# Altium integrated library Analog Devices Data Converters Analog-to-Digital Converters.IntLib: 2404 symbols (part 345 of 346)
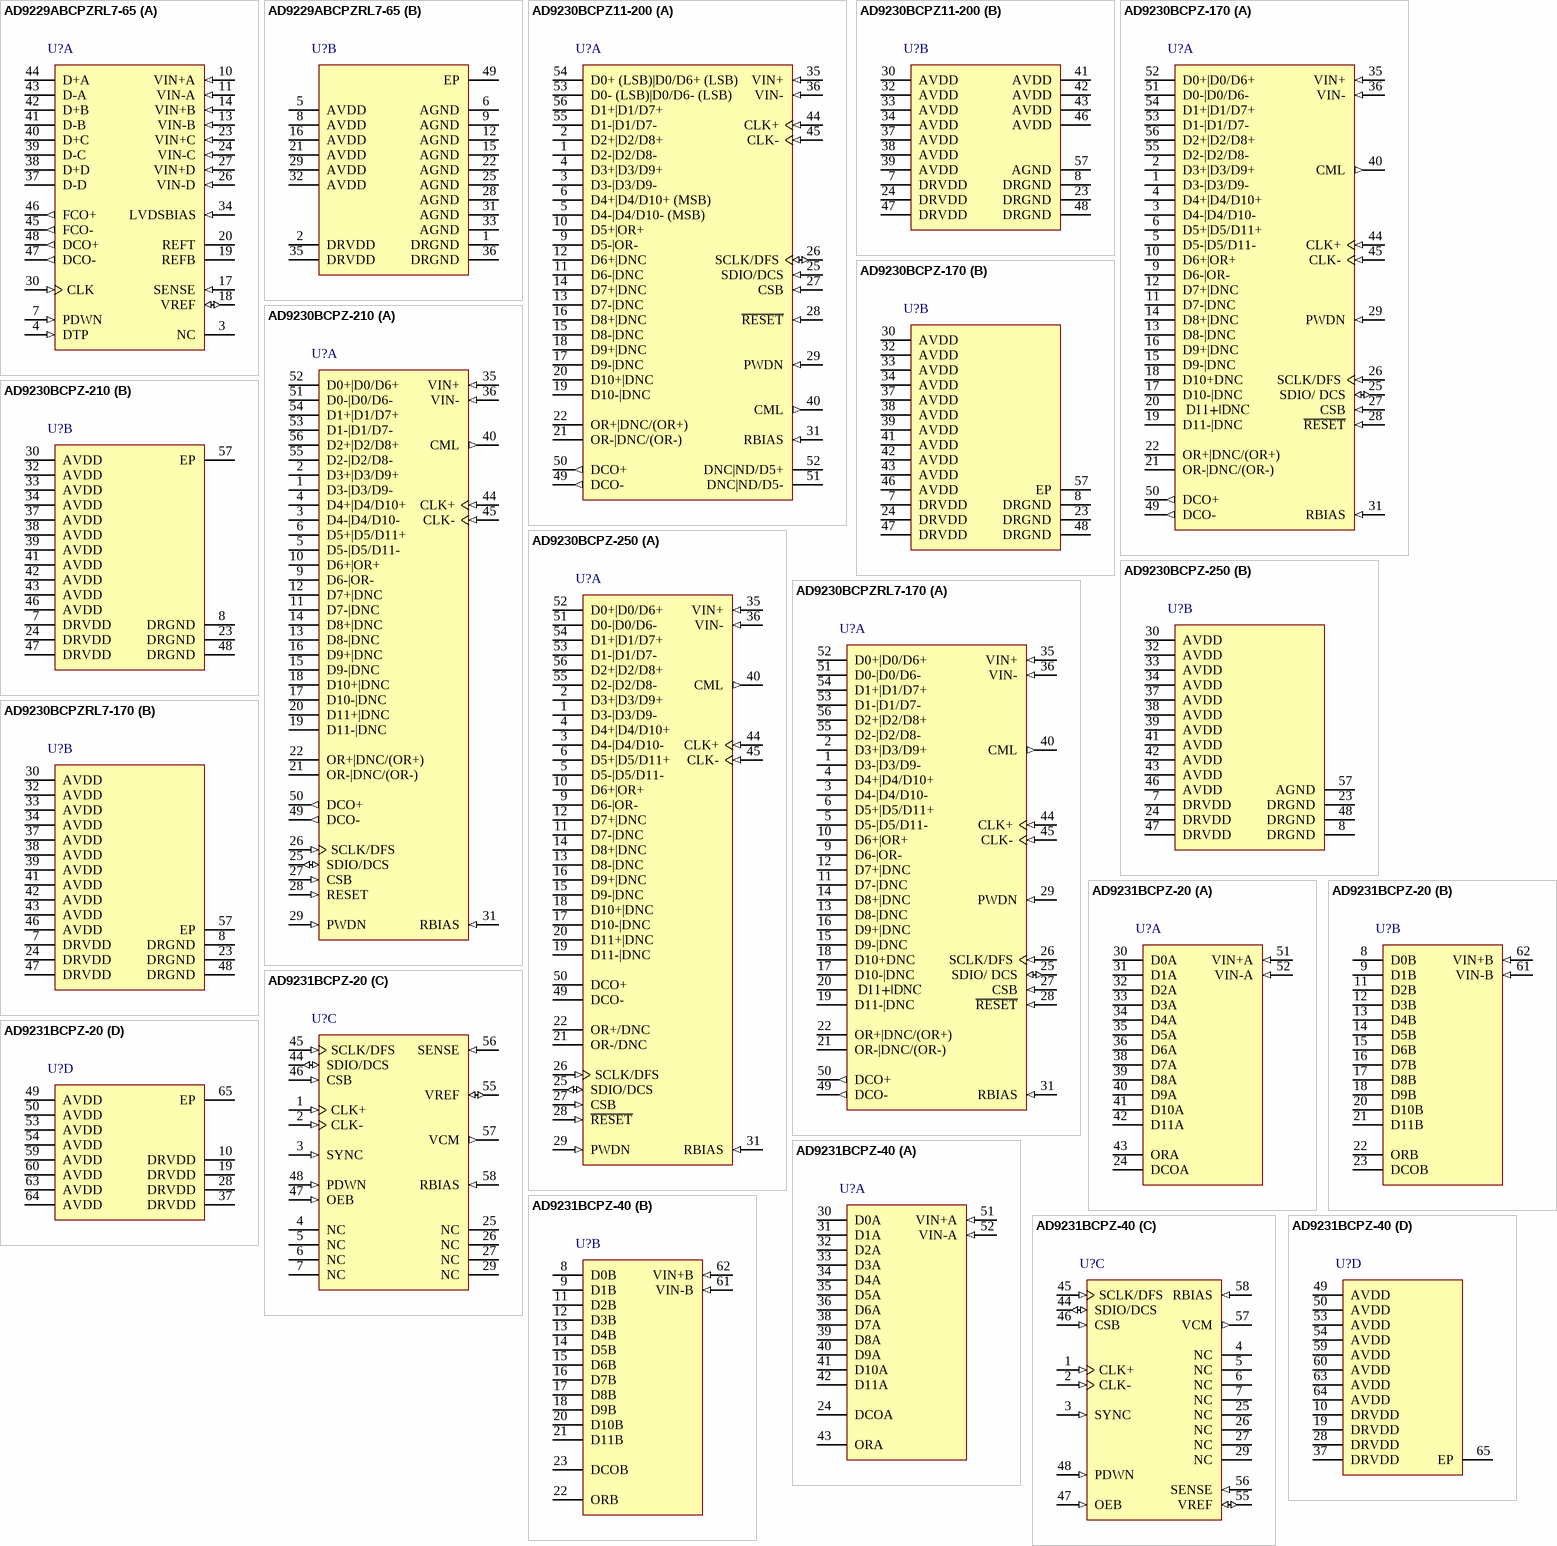
[diagram p339: symbols AD9229ABCPZRL7-65 to AD9231BCPZ-40]

## AD9230BCPZ-210
designator U?
Single 12-Bit Analog-to-Digital Converter with LVDS, Parallel Interface, 1.8 V 210MSPS, -40 to +85 degC, CP-56-2, Pb-Free, Tray; Generic Part Number: AD9230-210; Manufacturer: Analog Devices; PartNumber: AD9230BCPZ-210; Resolution (Bits): 12; Channels: 1; Throughput Rate (SPS): 210M; DatasheetVersion: Rev.0; PackageVersion: 112805-0; PackageReference: CP-56-2; PackageDescription: 56-Lead Lead Frame Chip Scale Package [LFCSP_VQ] 8 x 8 mm Body, Very Thin Quad; Supplier 1: Digi-Key; Supplier Part Number 1: AD9230BCPZ-210-ND; Supplier 2: Farnell; Supplier Part Number 2: 2312752; Supplier 3: Newark; Supplier Part Number 3: 34M5087; Supplier 4: Mouser; Supplier Part Number 4: 584-AD9230BCPZ-210; Interface: LVDS, Par; RoHS: Y; Packing: Tray; Mounting Technology: Surface Mount; Code_JEDEC: MO-220-VLLD-2; ComponentLink1Description: Manufacturer URL; ComponentLink1URL: http://www.analog.com/en/index.html; ComponentLink2Description: Datasheet; ComponentLink2URL: http://www.analog.com/static/imported-files/data_sheets/AD9230.pdf; ComponentLink3Description: Package Specification; ComponentLink3URL: http://www.analog.com/static/imported-files/packages/PKG_PDF/LFCSP(CP)/CP-56/CP_56_2.pdf; ComponentLink4Description: Product URL; ComponentLink4URL: http://www.analog.com/en/analog-to-digital-converters/ad-converters/ad9230/products/product.html
footprint CP-56-2_N (QFN, 56-Leads, Body 8x8mm, Pitch 0.5mm, Thermal Pad 4.3x4.3mm, IPC Medium Density)
footprint CP-56-2_L (QFN, 56-Leads, Body 8x8mm, Pitch 0.5mm, Thermal Pad 4.3x4.3mm, IPC High Density)
footprint CP-56-2_M (QFN, 56-Leads, Body 8x8mm, Pitch 0.5mm, Thermal Pad 4.3x4.3mm, IPC Low Density)
part A pins: 1 D3-|D3/D9- (hiz), 2 D3+|D3/D9+ (hiz), 3 D4-|D4/D10- (hiz), 4 D4+|D4/D10+ (hiz), 5 D5-|D5/D11- (hiz), 6 D5+|D5/D11+ (hiz), 9 D6-|OR- (hiz), 10 D6+|OR+ (hiz), 11 D7-|DNC (hiz), 12 D7+|DNC (hiz), 13 D8-|DNC (hiz), 14 D8+|DNC (hiz), 15 D9-|DNC (hiz), 16 D9+|DNC (hiz), 17 D10-|DNC (hiz), 18 D10+|DNC (hiz), 19 D11-|DNC (hiz), 20 D11+|DNC (hiz), 21 OR-|DNC/(OR-) (hiz), 22 OR+|DNC/(OR+) (hiz), 25 SDIO/DCS (io) "Serial Port Interface (SPI®) Data Input/Output (Serial Port Mode); Duty Cycle Stabilizer Select (External Pin Mode).", 26 SCLK/DFS (in) "Serial Port Interface Clock (Serial Port Mode); Data Format Select Pin (External Pin Mode).", 27 CSB (in) "Serial Port Chip Select (Active Low).", 28 RESET (in) "CMOS-Compatible Chip Reset (Active Low).", 29 PWDN (in) "Chip Power-Down.", 31 RBIAS (in) "Set Pin for Chip Bias Current. (Place 1% 10 kO resistor terminated to ground.) Nominally 0.5 V.", 35 VIN+ (in) "Analog Input--True.", 36 VIN- (in) "Analog Input--Complement.", 40 CML (out) "Common-Mode Output Pin. Enabled through the SPI, this pin provides a reference for the optimized internal bias voltage for VIN+/VIN-.", 44 CLK+ (in) "Clock Input--True.", 45 CLK- (in) "Clock Input--Complement.", 49 DCO- (out) "Data Clock Output--Complement.", 50 DCO+ (out) "Data Clock Output--True.", 51 D0-|D0/D6- (hiz), 52 D0+|D0/D6+ (hiz), 53 D1-|D1/D7- (hiz), 54 D1+|D1/D7+ (hiz), 55 D2-|D2/D8- (hiz), 56 D2+|D2/D8+ (hiz)
part B pins: 7 DRVDD (power) "1.8 V Digital Output Supply.", 8 DRGND (power) "Digital Output Ground.", 23 DRGND (power) "Digital Output Ground.", 24 DRVDD (power) "1.8 V Digital Output Supply.", 30 AVDD (power) "1.8 V Analog Supply.", 32 AVDD (power) "1.8 V Analog Supply.", 33 AVDD (power) "1.8 V Analog Supply.", 34 AVDD (power) "1.8 V Analog Supply.", 37 AVDD (power) "1.8 V Analog Supply.", 38 AVDD (power) "1.8 V Analog Supply.", 39 AVDD (power) "1.8 V Analog Supply.", 41 AVDD (power) "1.8 V Analog Supply.", 42 AVDD (power) "1.8 V Analog Supply.", 43 AVDD (power) "1.8 V Analog Supply.", 46 AVDD (power) "1.8 V Analog Supply.", 47 DRVDD (power) "1.8 V Digital Output Supply.", 48 DRGND (power) "Digital Output Ground.", 57 EP (power) "Analog Ground."

## AD9230BCPZ-250
designator U?
Single 12-Bit Analog-to-Digital Converter with LVDS, Parallel Interface, 1.8 V 250MSPS, -40 to +85 degC, CP-56-2, Pb-Free, Tray; Generic Part Number: AD9230-250; Manufacturer: Analog Devices; PartNumber: AD9230BCPZ-250; Resolution (Bits): 12; Channels: 1; Throughput Rate (SPS): 250M; DatasheetVersion: Rev.0; PackageVersion: 112805-0; PackageReference: CP-56-2; PackageDescription: 56-Lead Lead Frame Chip Scale Package [LFCSP_VQ] 8 x 8 mm Body, Very Thin Quad; Supplier 1: Digi-Key; Supplier Part Number 1: AD9230BCPZ-250-ND; Supplier 2: Farnell; Supplier Part Number 2: 1699562; Supplier 3: Newark; Supplier Part Number 3: 34M5088; Supplier 4: Mouser; Supplier Part Number 4: 584-AD9230BCPZ-250; Interface: LVDS, Par; RoHS: Y; Packing: Tray; Mounting Technology: Surface Mount; Code_JEDEC: MO-220-VLLD-2; ComponentLink1Description: Manufacturer URL; ComponentLink1URL: http://www.analog.com/en/index.html; ComponentLink2Description: Datasheet; ComponentLink2URL: http://www.analog.com/static/imported-files/data_sheets/AD9230.pdf; ComponentLink3Description: Package Specification; ComponentLink3URL: http://www.analog.com/static/imported-files/packages/PKG_PDF/LFCSP(CP)/CP-56/CP_56_2.pdf; ComponentLink4Description: Product URL; ComponentLink4URL: http://www.analog.com/en/analog-to-digital-converters/ad-converters/ad9230/products/product.html
footprint CP-56-2_N (QFN, 56-Leads, Body 8x8mm, Pitch 0.5mm, Thermal Pad 4.3x4.3mm, IPC Medium Density)
footprint CP-56-2_L (QFN, 56-Leads, Body 8x8mm, Pitch 0.5mm, Thermal Pad 4.3x4.3mm, IPC High Density)
footprint CP-56-2_M (QFN, 56-Leads, Body 8x8mm, Pitch 0.5mm, Thermal Pad 4.3x4.3mm, IPC Low Density)
part A pins: 1 D3-|D3/D9- (hiz) "D3/D9 Complement Output Bit.", 2 D3+|D3/D9+ (hiz) "D3/D9 True Output Bit.", 3 D4-|D4/D10- (hiz) "D4/D10 Complement Output Bit.", 4 D4+|D4/D10+ (hiz) "D4/D10 True Output Bit.", 5 D5-|D5/D11- (hiz) "D5/D11 Complement Output Bit (MSB).", 6 D5+|D5/D11+ (hiz) "D5/D11 True Output Bit (MSB).", 9 D6-|OR- (hiz), 10 D6+|OR+ (hiz), 11 D7-|DNC (hiz), 12 D7+|DNC (hiz), 13 D8-|DNC (hiz), 14 D8+|DNC (hiz), 15 D9-|DNC (hiz), 16 D9+|DNC (hiz), 17 D10-|DNC (hiz), 18 D10+|DNC (hiz), 19 D11-|DNC (hiz), 20 D11+|DNC (hiz), 21 OR-/DNC (hiz), 22 OR+/DNC (hiz), 25 SDIO/DCS (io) "Serial Port Interface (SPI) Data Input/Output (Serial Port Mode); Duty Cycle Stabilizer Select (External Pin Mode).", 26 SCLK/DFS (in) "Serial Port Interface Clock (Serial Port Mode); Data Format Select Pin (External Pin Mode).", 27 CSB (in) "Serial Port Chip Select (Active Low).", 28 ~{RESET} (in) "CMOS-Compatible Chip Reset (Active Low).", 29 PWDN (in) "Chip Power-Down.", 31 RBIAS (in) "Set Pin for Chip Bias Current. (Place 1% 10 k ohm resistor terminated to ground.) Nominally 0.5 V.", 35 VIN+ (in) "Analog Input--True.", 36 VIN- (in) "Analog Input--Complement.", 40 CML (out) "Common-Mode Output Pin. Enabled through the SPI, this pin provides a reference for the optimized internal bias voltage for VIN+/VIN-.", 44 CLK+ (in) "Clock Input--True.", 45 CLK- (in) "Clock Input--Complement.", 49 DCO- (hiz) "Data Clock Output--Complement.", 50 DCO+ (hiz) "Data Clock Output--True.", 51 D0-|D0/D6- (hiz) "D0/D6 Complement Output Bit (LSB).", 52 D0+|D0/D6+ (hiz) "D0/D6 True Output Bit (LSB).", 53 D1-|D1/D7- (hiz) "D1/D7 Complement Output Bit.", 54 D1+|D1/D7+ (hiz) "D1/D7 True Output Bit.", 55 D2-|D2/D8- (hiz) "D2/D8 Complement Output Bit.", 56 D2+|D2/D8+ (hiz) "D2/D8 True Output Bit."
part B pins: 7 DRVDD (power) "1.8 V Digital Output Supply.", 8 DRGND (power) "Digital Output Ground.", 23 DRGND (power) "Digital Output Ground.", 24 DRVDD (power) "1.8 V Digital Output Supply.", 30 AVDD (power) "1.8 V Analog Supply.", 32 AVDD (power) "1.8 V Analog Supply.", 33 AVDD (power) "1.8 V Analog Supply.", 34 AVDD (power) "1.8 V Analog Supply.", 37 AVDD (power) "1.8 V Analog Supply.", 38 AVDD (power) "1.8 V Analog Supply.", 39 AVDD (power) "1.8 V Analog Supply.", 41 AVDD (power) "1.8 V Analog Supply.", 42 AVDD (power) "1.8 V Analog Supply.", 43 AVDD (power) "1.8 V Analog Supply.", 46 AVDD (power) "1.8 V Analog Supply.", 47 DRVDD (power) "1.8 V Digital Output Supply.", 48 DRGND (power) "Digital Output Ground.", 57 AGND (power) "Analog Ground."

## AD9230BCPZRL7-170
designator U?
Single 12-Bit Analog-to-Digital Converter with LVDS, Parallel Interface, 1.8 V, 170MSPS, -40 to +85 degC, CP-56-2, Pb-Free, Reel; Generic Part Number: AD9230-170; Manufacturer: Analog Devices; PartNumber: AD9230BCPZRL7-170; Resolution (Bits): 12; Channels: 1; Throughput Rate (SPS): 170M; DatasheetVersion: Rev.0; PackageVersion: 112805-0; PackageReference: CP-56-2; PackageDescription: 56-Lead Lead Frame Chip Scale Package [LFCSP_VQ] 8 x 8 mm Body, Very Thin Quad; Supplier 1: Digi-Key; Supplier Part Number 1: AD9230BCPZRL7-170-ND; Supplier 2: Newark; Supplier Part Number 2: 72T3613; Supplier 3: Mouser; Supplier Part Number 3: 584-AD9230BCPZR7-170; Interface: LVDS, Par; RoHS: Y; Packing: Reel; Mounting Technology: Surface Mount; Code_JEDEC: MO-220-VLLD-2; ComponentLink1Description: Manufacturer URL; ComponentLink1URL: http://www.analog.com/en/index.html; ComponentLink2Description: Datasheet; ComponentLink2URL: http://www.analog.com/static/imported-files/data_sheets/AD9230.pdf; ComponentLink3Description: Package Specification; ComponentLink3URL: http://www.analog.com/static/imported-files/packages/PKG_PDF/LFCSP(CP)/CP-56/CP_56_2.pdf; ComponentLink4Description: Product URL; ComponentLink4URL: http://www.analog.com/en/analog-to-digital-converters/ad-converters/ad9230/products/product.html
footprint CP-56-2_N (QFN, 56-Leads, Body 8x8mm, Pitch 0.5mm, Thermal Pad 4.3x4.3mm, IPC Medium Density)
footprint CP-56-2_L (QFN, 56-Leads, Body 8x8mm, Pitch 0.5mm, Thermal Pad 4.3x4.3mm, IPC High Density)
footprint CP-56-2_M (QFN, 56-Leads, Body 8x8mm, Pitch 0.5mm, Thermal Pad 4.3x4.3mm, IPC Low Density)
part A pins: 1 D3-|D3/D9- (hiz) "D3 Complement Output Bit.", 2 D3+|D3/D9+ (hiz) "D3 True Output Bit.", 3 D4-|D4/D10- (hiz) "D4 Complement Output Bit.", 4 D4+|D4/D10+ (hiz) "D4 True Output Bit.", 5 D5-|D5/D11- (hiz) "D5 Complement Output Bit.", 6 D5+|D5/D11+ (hiz) "D5 True Output Bit.", 9 D6-|OR- (hiz) "D6 Complement Output Bit.", 10 D6+|OR+ (hiz) "D6 True Output Bit.", 11 D7-|DNC (hiz) "D7 Complement Output Bit.", 12 D7+|DNC (hiz) "D7 True Output Bit.", 13 D8-|DNC (hiz) "D8 Complement Output Bit.", 14 D8+|DNC (hiz) "D8 True Output Bit.", 15 D9-|DNC (hiz) "D9 Complement Output Bit.", 16 D9+|DNC (hiz) "D9 True Output Bit.", 17 D10-|DNC (hiz) "D10 Complement Output Bit.", 18 D10+DNC (hiz) "D10 True Output Bit.", 19 D11-|DNC (hiz) "D11 Complement Output Bit (MSB).", 20 D11+|DNC (hiz) "D11 True Output Bit (MSB).", 21 OR-|DNC/(OR-) (hiz) "Overrange Complement Output Bit.", 22 OR+|DNC/(OR+) (hiz) "Overrange True Output Bit.", 25 SDIO/ DCS (io) "Serial Port Interface (SPI®) Data Input/Output (Serial Port Mode); Duty Cycle Stabilizer Select (External Pin Mode).", 26 SCLK/DFS (in) "Serial Port Interface Clock (Serial Port Mode); Data Format Select Pin (External Pin Mode).", 27 CSB (in) "Serial Port Chip Select (Active Low).", 28 ~{RESET} (in) "CMOS-Compatible Chip Reset (Active Low).", 29 PWDN (in) "Chip Power-Down.", 31 RBIAS (in) "Set Pin for Chip Bias Current. (Place 1% 10 kO resistor terminated to ground.) Nominally 0.5 V.", 35 VIN+ (in) "Analog Input--True.", 36 VIN- (in) "Analog Input--Complement.", 40 CML (out) "Common-Mode Output Pin. Enabled through the SPI, this pin provides a reference for the  optimized internal bias voltage for VIN+/VIN-.", 44 CLK+ (in) "Clock Input--True.", 45 CLK- (in) "Clock Input--Complement.", 49 DCO- (out) "Data Clock Output--Complement.", 50 DCO+ (out) "Data Clock Output--True.", 51 D0-|D0/D6- (hiz) "D0 Complement Output Bit (LSB).", 52 D0+|D0/D6+  (hiz) "D0 True Output Bit (LSB).", 53 D1-|D1/D7- (hiz) "D1 Complement Output Bit.", 54 D1+|D1/D7+ (hiz) "D1 True Output Bit.", 55 D2-|D2/D8- (hiz) "D2 Complement Output Bit.", 56 D2+|D2/D8+ (hiz) "D2 True Output Bit."
part B pins: 7 DRVDD (power) "1.8 V Digital Output Supply.", 8 DRGND (power) "Digital Output Ground.", 23 DRGND (power) "Digital Output Ground.", 24 DRVDD (power) "1.8 V Digital Output Supply.", 30 AVDD (power) "1.8 V Analog Supply.", 32 AVDD (power) "1.8 V Analog Supply.", 33 AVDD (power) "1.8 V Analog Supply.", 34 AVDD (power) "1.8 V Analog Supply.", 37 AVDD (power) "1.8 V Analog Supply.", 38 AVDD (power) "1.8 V Analog Supply.", 39 AVDD (power) "1.8 V Analog Supply.", 41 AVDD (power) "1.8 V Digital Output Supply.", 42 AVDD (power) "1.8 V Digital Output Supply.", 43 AVDD (power) "1.8 V Digital Output Supply.", 46 AVDD (power) "1.8 V Digital Output Supply.", 47 DRVDD (power) "1.8 V Digital Output Supply.", 48 DRGND (power) "Digital Output Ground.", 57 EP (power) "Analog Ground."

## AD9231BCPZ-20
designator U?
Dual 12-Bit Analog-to-Digital Converter with LVDS, Serial Interface, 1.8 V, 20MSPS, -40 to +85 degC, CP-64-4, Pb-Free, Tray; Generic Part Number: AD9231-20; Manufacturer: Analog Devices; PartNumber: AD9231BCPZ-20; Resolution (Bits): 12; Channels: 2; Throughput Rate (SPS): 20M; DatasheetVersion: Rev.A; PackageVersion: 051007-C; PackageReference: CP-64-4; PackageDescription: 64-Lead Lead Frame Chip Scale Package [LFCSP_VQ] 9 x 9 mm Body, Very Thin Quad; Supplier 1: Digi-Key; Supplier Part Number 1: AD9231BCPZ-20-ND; Supplier 2: Mouser; Supplier Part Number 2: 584-AD9231BCPZ-20; Interface: LVDS, Ser; RoHS: Y; Packing: Tray; Mounting Technology: Surface Mount; Code_JEDEC: MO-220-VMMD-4; ComponentLink1Description: Manufacturer URL; ComponentLink1URL: http://www.analog.com/en/index.html; ComponentLink2Description: Datasheet; ComponentLink2URL: http://www.analog.com/static/imported-files/data_sheets/AD9231.pdf; ComponentLink3Description: Package Specification; ComponentLink3URL: http://www.analog.com/static/imported-files/packages/PKG_PDF/LFCSP(CP)/CP_64_4.pdf; ComponentLink4Description: Product URL; ComponentLink4URL: http://www.analog.com/en/analog-to-digital-converters/ad-converters/ad9231/products/product.html
footprint CP-64-4_N (QFN, 64-Leads, Body 9x9mm, Pitch 0.5mm, Thermal Pad 6.2x6.2mm, IPC Medium Density)
footprint CP-64-4_L (QFN, 64-Leads, Body 9x9mm, Pitch 0.5mm, Thermal Pad 6.2x6.2mm, IPC High Density)
footprint CP-64-4_M (QFN, 64-Leads, Body 9x9mm, Pitch 0.5mm, Thermal Pad 6.2x6.2mm, IPC Low Density)
part A pins: 24 DCOA (hiz) "Channel A Data Clock Digital Output.", 30 D0A (hiz) "Channel A Digital Outputs.", 31 D1A (hiz) "Channel A Digital Outputs.", 32 D2A (hiz) "Channel A Digital Outputs.", 33 D3A (hiz) "Channel A Digital Outputs.", 34 D4A (hiz) "Channel A Digital Outputs.", 35 D5A (hiz) "Channel A Digital Outputs.", 36 D6A (hiz) "Channel A Digital Outputs.", 38 D7A (hiz) "Channel A Digital Outputs.", 39 D8A (hiz) "Channel A Digital Outputs.", 40 D9A (hiz) "Channel A Digital Outputs.", 41 D10A (hiz) "Channel A Digital Outputs.", 42 D11A (hiz) "Channel A Digital Outputs. D11A = MSB.", 43 ORA (hiz) "Channel A Out-of-Range Digital Output.", 51 VIN+A (in) "Channel A Analog Inputs.", 52 VIN-A (in) "Channel A Analog Inputs."
part B pins: 8 D0B (hiz) "Channel B Digital Outputs.", 9 D1B (hiz) "Channel B Digital Outputs.", 11 D2B (hiz) "Channel B Digital Outputs.", 12 D3B (hiz) "Channel B Digital Outputs.", 13 D4B (hiz) "Channel B Digital Outputs.", 14 D5B (hiz) "Channel B Digital Outputs.", 15 D6B (hiz) "Channel B Digital Outputs.", 16 D7B (hiz) "Channel B Digital Outputs.", 17 D8B (hiz) "Channel B Digital Outputs.", 18 D9B (hiz) "Channel B Digital Outputs.", 20 D10B (hiz) "Channel B Digital Outputs.", 21 D11B (hiz) "Channel B Digital Outputs. D11B = MSB.", 22 ORB (hiz) "Channel B Out-of-Range Digital Output.", 23 DCOB (hiz) "Channel B Data Clock Digital Output.", 61 VIN-B (in) "Channel B Analog Inputs.", 62 VIN+B (in) "Channel B Analog Inputs."
part C pins: 1 CLK+ (in) "Differential Encode Clock. PECL, LVDS, or 1.8 V CMOS inputs.", 2 CLK- (in) "Differential Encode Clock. PECL, LVDS, or 1.8 V CMOS inputs.", 3 SYNC (in) "Digital Input. SYNC input to clock divider. 30 kO internal pull-down.", 4 NC "Do Not Connect.", 5 NC "Do Not Connect.", 6 NC "Do Not Connect.", 7 NC "Do Not Connect.", 25 NC "Do Not Connect.", 26 NC "Do Not Connect.", 27 NC "Do Not Connect.", 29 NC "Do Not Connect.", 44 SDIO/DCS (io) "SPI Data Input/Output (SDIO). Bidirectional SPI Data I/O in SPI mode. 30 kO internal pull-down in SPI mode.Duty Cycle Stabilizer (DCS). Static enable input for duty cycle stabilizer in non-SPI mode. 30 kO internal pull-up in (See Datasheet)", 45 SCLK/DFS (in) "SPI Clock (SCLK) Input in SPI mode. 30 kO internal pull-down. Data Format Select (DFS). Static control of data output format in non-SPI mode. 30 kO internal pull-down. DFS high = twos complement output. DFS low = offset (See Datasheet)", 46 CSB (in) "SPI Chip Select. Active low enable; 30 kO internal pull-up.", 47 OEB (in) "Digital Input. Enable Channel A and Channel B digital outputs if low, tristate outputs if high. 30 kO internal pull-down.", 48 PDWN (in) "Digital Input. 30 kO internal pull-down. PDWN high = power-down device. PDWN low = run device, normal operation.", 55 VREF (io) "Voltage Reference Input/Output.", 56 SENSE (in) "Reference Mode Selection.", 57 VCM (out) "Analog output voltage at midsupply to set common mode of the analog inputs.", 58 RBIAS (in) "Sets Analog Current Bias. Connect to 10 kO (1% tolerance) resistor to ground."
part D pins: 10 DRVDD (power) "Digital Output Driver Supply (1.8 V to 3.3 V).", 19 DRVDD (power) "Digital Output Driver Supply (1.8 V to 3.3 V).", 28 DRVDD (power) "Digital Output Driver Supply (1.8 V to 3.3 V).", 37 DRVDD (power) "Digital Output Driver Supply (1.8 V to 3.3 V).", 49 AVDD (power) "1.8 V Analog Supply Pins.", 50 AVDD (power) "1.8 V Analog Supply Pins.", 53 AVDD (power) "1.8 V Analog Supply Pins.", 54 AVDD (power) "1.8 V Analog Supply Pins.", 59 AVDD (power) "1.8 V Analog Supply Pins.", 60 AVDD (power) "1.8 V Analog Supply Pins.", 63 AVDD (power) "1.8 V Analog Supply Pins.", 64 AVDD (power) "1.8 V Analog Supply Pins.", 65 EP (power) "Exposed paddle is the only ground connection for the chip. Must be connected to PCB AGND."

## AD9231BCPZ-40
designator U?
Dual 12-Bit Analog-to-Digital Converter with LVDS, Serial Interface, 1.8 V 40MSPS, -40 to +85 degC, CP-64-4, Pb-Free, Tray; Generic Part Number: AD9231-40; Manufacturer: Analog Devices; PartNumber: AD9231BCPZ-40; Resolution (Bits): 12; Channels: 2; Throughput Rate (SPS): 40M; DatasheetVersion: Rev.A; PackageVersion: 051007-C; PackageReference: CP-64-4; PackageDescription: 64-Lead Lead Frame Chip Scale Package [LFCSP_VQ] 9 x 9 mm Body, Very Thin Quad; Supplier 1: Digi-Key; Supplier Part Number 1: AD9231BCPZ-40-ND; Supplier 2: Mouser; Supplier Part Number 2: 584-AD9231BCPZ-40; Interface: LVDS, Ser; RoHS: Y; Packing: Tray; Mounting Technology: Surface Mount; Code_JEDEC: MO-220-VMMD-4; ComponentLink1Description: Manufacturer URL; ComponentLink1URL: http://www.analog.com/en/index.html; ComponentLink2Description: Datasheet; ComponentLink2URL: http://www.analog.com/static/imported-files/data_sheets/AD9231.pdf; ComponentLink3Description: Package Specification; ComponentLink3URL: http://www.analog.com/static/imported-files/packages/PKG_PDF/LFCSP(CP)/CP_64_4.pdf; ComponentLink4Description: Product URL; ComponentLink4URL: http://www.analog.com/en/analog-to-digital-converters/ad-converters/ad9231/products/product.html
footprint CP-64-4_N (QFN, 64-Leads, Body 9x9mm, Pitch 0.5mm, Thermal Pad 6.2x6.2mm, IPC Medium Density)
footprint CP-64-4_L (QFN, 64-Leads, Body 9x9mm, Pitch 0.5mm, Thermal Pad 6.2x6.2mm, IPC High Density)
footprint CP-64-4_M (QFN, 64-Leads, Body 9x9mm, Pitch 0.5mm, Thermal Pad 6.2x6.2mm, IPC Low Density)
part A pins: 24 DCOA (hiz) "Channel A Data Clock Digital Output.", 30 D0A (hiz) "Channel A Digital Outputs.", 31 D1A (hiz) "Channel A Digital Outputs.", 32 D2A (hiz) "Channel A Digital Outputs.", 33 D3A (hiz) "Channel A Digital Outputs.", 34 D4A (hiz) "Channel A Digital Outputs.", 35 D5A (hiz) "Channel A Digital Outputs.", 36 D6A (hiz) "Channel A Digital Outputs.", 38 D7A (hiz) "Channel A Digital Outputs.", 39 D8A (hiz) "Channel A Digital Outputs.", 40 D9A (hiz) "Channel A Digital Outputs.", 41 D10A (hiz) "Channel A Digital Outputs.", 42 D11A (hiz) "Channel A Digital Outputs. D11A = MSB.", 43 ORA (hiz) "Channel A Out-of-Range Digital Output.", 51 VIN+A (in) "Channel A Analog Inputs.", 52 VIN-A (in) "Channel A Analog Inputs."
part B pins: 8 D0B (hiz) "Channel B Digital Outputs.", 9 D1B (hiz) "Channel B Digital Outputs.", 11 D2B (hiz) "Channel B Digital Outputs.", 12 D3B (hiz) "Channel B Digital Outputs.", 13 D4B (hiz) "Channel B Digital Outputs.", 14 D5B (hiz) "Channel B Digital Outputs.", 15 D6B (hiz) "Channel B Digital Outputs.", 16 D7B (hiz) "Channel B Digital Outputs.", 17 D8B (hiz) "Channel B Digital Outputs.", 18 D9B (hiz) "Channel B Digital Outputs.", 20 D10B (hiz) "Channel B Digital Outputs.", 21 D11B (hiz) "Channel B Digital Outputs. D11B = MSB", 22 ORB (hiz) "Channel B Out-of-Range Digital Output.", 23 DCOB (hiz) "Channel B Data Clock Digital Output.", 61 VIN-B (in) "Channel B Analog Inputs.", 62 VIN+B (in) "Channel B Analog Inputs."
part C pins: 1 CLK+ (in) "Differential Encode Clock. PECL, LVDS, or 1.8 V CMOS inputs.", 2 CLK- (in) "Differential Encode Clock. PECL, LVDS, or 1.8 V CMOS inputs.", 3 SYNC (in) "Digital Input. SYNC input to clock divider. 30 k ohm internal pull-down.", 4 NC "Do Not Connect.", 5 NC "Do Not Connect.", 6 NC "Do Not Connect.", 7 NC "Do Not Connect.", 25 NC "Do Not Connect.", 26 NC "Do Not Connect.", 27 NC "Do Not Connect.", 29 NC "Do Not Connect.", 44 SDIO/DCS (io) "SPI Data Input/Output (SDIO). Bidirectional SPI Data I/O in SPI mode. 30 kO internal pull-down in SPI mode. Duty Cycle Stabilizer (DCS). Static enable input for duty cycle stabilizer in non-SPI mode. 30 k ohm internal pull-up (See Datasheet)", 45 SCLK/DFS (in) "SPI Clock (SCLK) Input in SPI mode. 30 k ohm internal pull-down. Data Format Select (DFS). Static control of data output format in non-SPI mode. 30 k ohm internal pull-down. DFS high = twos complement output. DFS low = offset (See Datasheet)", 46 CSB (in) "SPI Chip Select. Active low enable; 30 k ohm internal pull-up.", 47 OEB (in) "Digital Input. Enable Channel A and Channel B digital outputs if low, tristate outputs if high. 30 k ohm internal pull-down.", 48 PDWN (in) "Digital Input. 30 k ohm  internal pull-down. PDWN high = power-down device. PDWN low = run device, normal operation.", 55 VREF (io) "Voltage Reference Input/Output.", 56 SENSE (in) "Reference Mode Selection.", 57 VCM (out) "Analog output voltage at midsupply to set common mode of the analog inputs.", 58 RBIAS (in) "Sets Analog Current Bias. Connect to 10 k ohm  (1% tolerance) resistor to ground."
part D pins: 10 DRVDD (power) "Digital Output Driver Supply (1.8 V to 3.3 V).", 19 DRVDD (power) "Digital Output Driver Supply (1.8 V to 3.3 V).", 28 DRVDD (power) "Digital Output Driver Supply (1.8 V to 3.3 V).", 37 DRVDD (power) "Digital Output Driver Supply (1.8 V to 3.3 V).", 49 AVDD (power) "1.8 V Analog Supply Pins.", 50 AVDD (power) "1.8 V Analog Supply Pins.", 53 AVDD (power) "1.8 V Analog Supply Pins.", 54 AVDD (power) "1.8 V Analog Supply Pins.", 59 AVDD (power) "1.8 V Analog Supply Pins.", 60 AVDD (power) "1.8 V Analog Supply Pins.", 63 AVDD (power) "1.8 V Analog Supply Pins.", 64 AVDD (power) "1.8 V Analog Supply Pins.", 65 EP (power) "Exposed paddle is the only ground connection for the chip. Must be connected to PCB AGND."

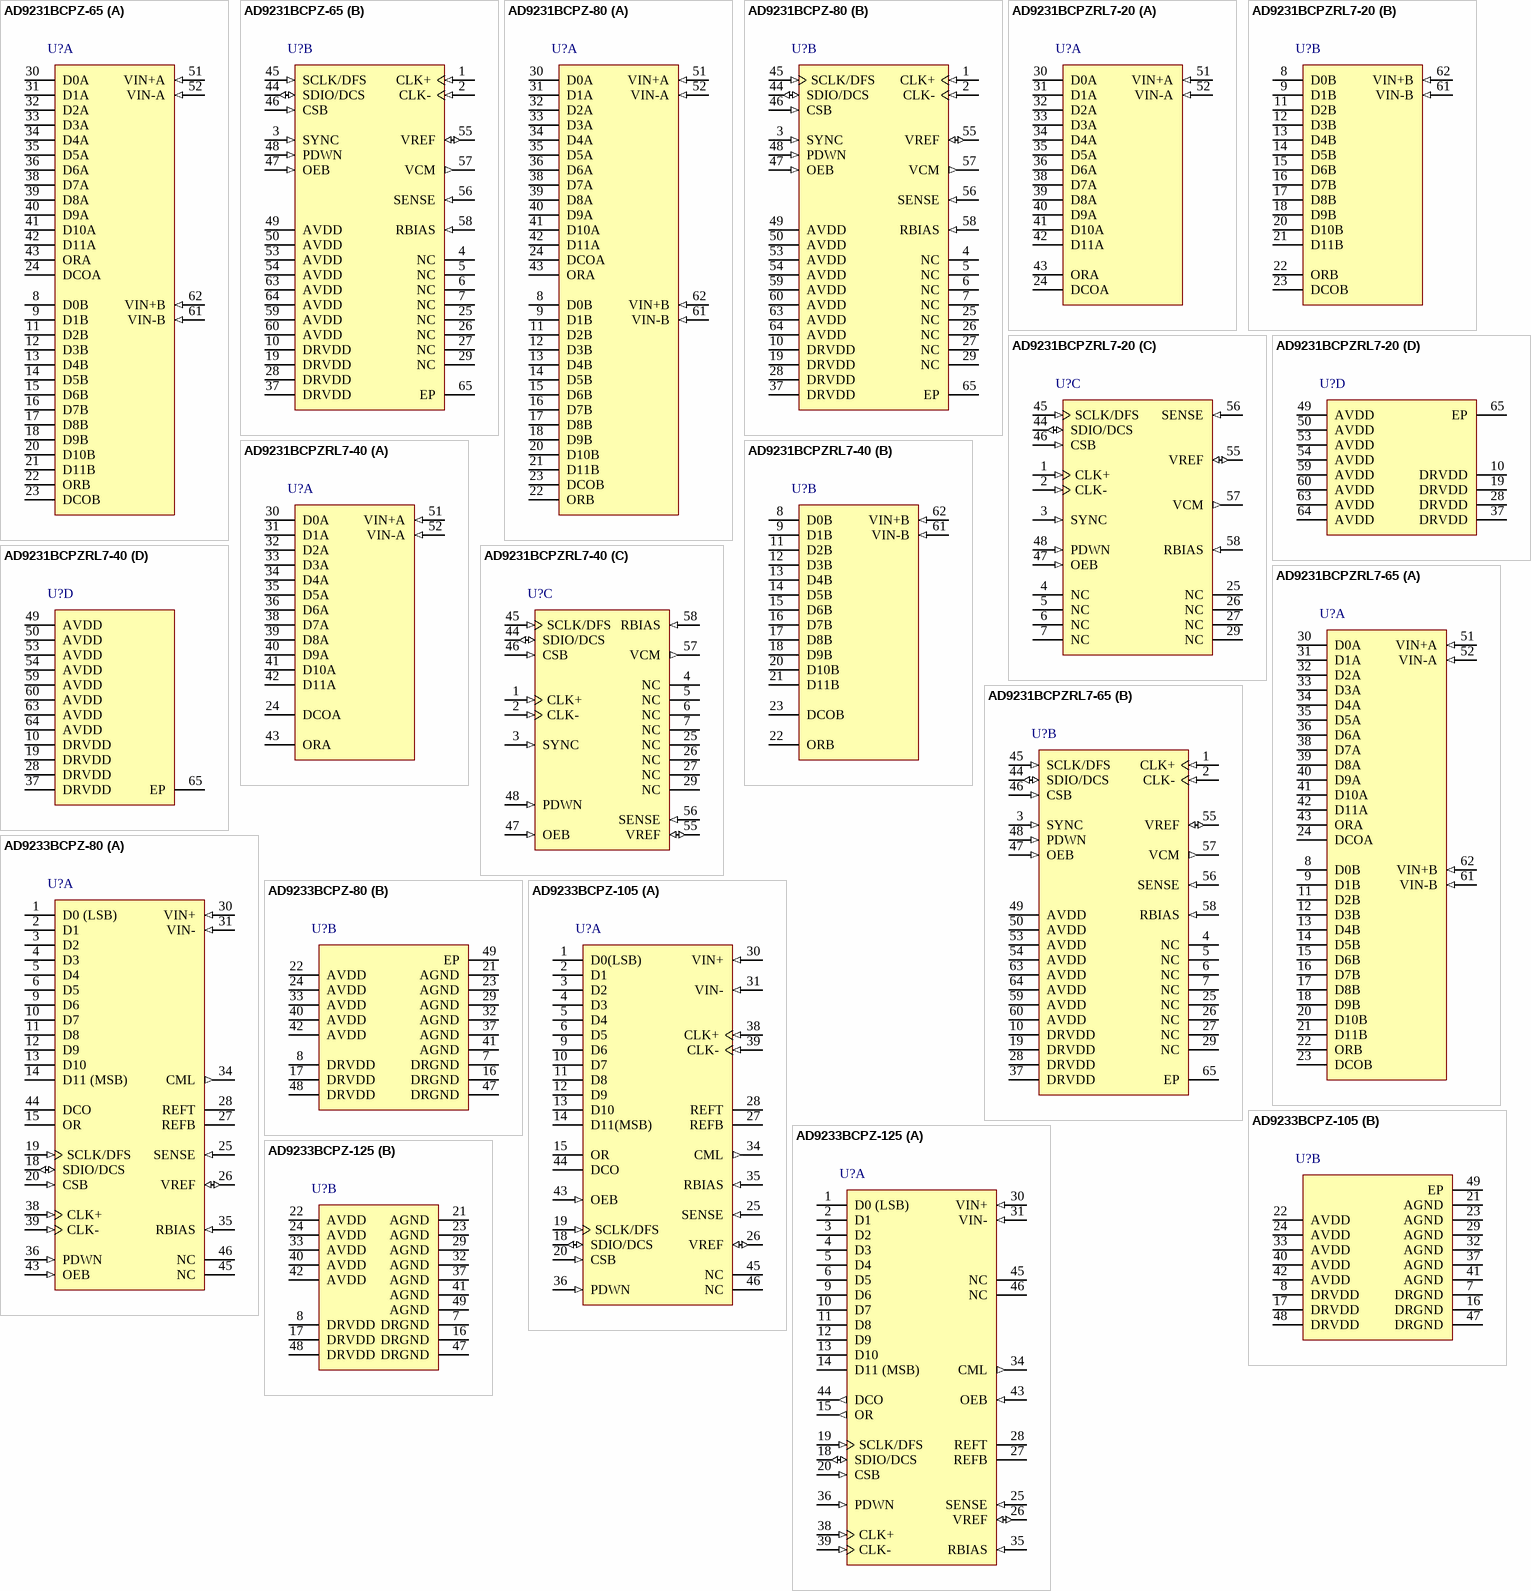
[diagram p108: symbols AD9231BCPZ-65 to AD9233BCPZ-125]

## AD9231BCPZ-65
designator U?
Dual 12-Bit Analog-to-Digital Converter with LVDS, Serial Interface, 1.8 V 65MSPS, -40 to +85 degC, CP-64-4, Pb-Free, Tray; Generic Part Number: AD9231-65; Manufacturer: Analog Devices; PartNumber: AD9231BCPZ-65; Resolution (Bits): 12; Channels: 2; Throughput Rate (SPS): 65M; DatasheetVersion: Rev.A; PackageVersion: 051007-C; PackageReference: CP-64-4; PackageDescription: 64-Lead Lead Frame Chip Scale Package [LFCSP_VQ] 9 x 9 mm Body, Very Thin Quad; Supplier 1: Digi-Key; Supplier Part Number 1: AD9231BCPZ-65-ND; Supplier 2: Mouser; Supplier Part Number 2: 584-AD9231BCPZ-65; Interface: LVDS, Ser; RoHS: Y; Packing: Tray; Mounting Technology: Surface Mount; Code_JEDEC: MO-220-VMMD-4; ComponentLink1Description: Manufacturer URL; ComponentLink1URL: http://www.analog.com/en/index.html; ComponentLink2Description: Datasheet; ComponentLink2URL: http://www.analog.com/static/imported-files/data_sheets/AD9231.pdf; ComponentLink3Description: Package Specification; ComponentLink3URL: http://www.analog.com/static/imported-files/packages/PKG_PDF/LFCSP(CP)/CP_64_4.pdf; ComponentLink4Description: Product URL; ComponentLink4URL: http://www.analog.com/en/analog-to-digital-converters/ad-converters/ad9231/products/product.html
footprint CP-64-4_N (QFN, 64-Leads, Body 9x9mm, Pitch 0.5mm, Thermal Pad 6.2x6.2mm, IPC Medium Density)
footprint CP-64-4_L (QFN, 64-Leads, Body 9x9mm, Pitch 0.5mm, Thermal Pad 6.2x6.2mm, IPC High Density)
footprint CP-64-4_M (QFN, 64-Leads, Body 9x9mm, Pitch 0.5mm, Thermal Pad 6.2x6.2mm, IPC Low Density)
part A pins: 8 D0B (hiz) "Channel B Digital Outputs.", 9 D1B (hiz) "Channel B Digital Outputs.", 11 D2B (hiz) "Channel B Digital Outputs.", 12 D3B (hiz) "Channel B Digital Outputs.", 13 D4B (hiz) "Channel B Digital Outputs.", 14 D5B (hiz) "Channel B Digital Outputs.", 15 D6B (hiz) "Channel B Digital Outputs.", 16 D7B (hiz) "Channel B Digital Outputs.", 17 D8B (hiz) "Channel B Digital Outputs.", 18 D9B (hiz) "Channel B Digital Outputs.", 20 D10B (hiz) "Channel B Digital Outputs.", 21 D11B (hiz) "Channel B Digital Outputs. D11B = MSB", 22 ORB (hiz) "Channel B Out-of-Range Digital Output.", 23 DCOB (hiz) "Channel B Data Clock Digital Output.", 24 DCOA (hiz) "Channel A Data Clock Digital Output.", 30 D0A (hiz) "Channel A Digital Outputs.", 31 D1A (hiz) "Channel A Digital Outputs.", 32 D2A (hiz) "Channel A Digital Outputs.", 33 D3A (hiz) "Channel A Digital Outputs.", 34 D4A (hiz) "Channel A Digital Outputs.", 35 D5A (hiz) "Channel A Digital Outputs.", 36 D6A (hiz) "Channel A Digital Outputs.", 38 D7A (hiz) "Channel A Digital Outputs.", 39 D8A (hiz) "Channel A Digital Outputs.", 40 D9A (hiz) "Channel A Digital Outputs.", 41 D10A (hiz) "Channel A Digital Outputs.", 42 D11A (hiz) "Channel A Digital Outputs. D11A = MSB.", 43 ORA (hiz) "Channel A Out-of-Range Digital Output.", 51 VIN+A (in) "Channel A Analog Inputs.", 52 VIN-A (in) "Channel A Analog Inputs.", 61 VIN-B (in) "Channel B Analog Inputs.", 62 VIN+B (in) "Channel B Analog Inputs."
part B pins: 1 CLK+ (in) "Differential Encode Clock. PECL, LVDS, or 1.8 V CMOS inputs.", 2 CLK- (in) "Differential Encode Clock. PECL, LVDS, or 1.8 V CMOS inputs.", 3 SYNC (in) "Digital Input. SYNC input to clock divider. 30 k ohm internal pull-down.", 4 NC "Do Not Connect.", 5 NC "Do Not Connect.", 6 NC "Do Not Connect.", 7 NC "Do Not Connect.", 10 DRVDD (power) "Digital Output Driver Supply (1.8 V to 3.3 V).", 19 DRVDD (power) "Digital Output Driver Supply (1.8 V to 3.3 V).", 25 NC "Do Not Connect.", 26 NC "Do Not Connect.", 27 NC "Do Not Connect.", 28 DRVDD (power) "Digital Output Driver Supply (1.8 V to 3.3 V).", 29 NC "Do Not Connect.", 37 DRVDD (power) "Digital Output Driver Supply (1.8 V to 3.3 V).", 44 SDIO/DCS (io) "SPI Data Input/Output (SDIO). Bidirectional SPI Data I/O in SPI mode. 30 kO internal pull-down in SPI mode. Duty Cycle Stabilizer (DCS). Static enable input for duty cycle stabilizer in non-SPI mode. 30 kO internal pull-up (See Datasheet)", 45 SCLK/DFS (in) "SPI Clock (SCLK) Input in SPI mode. 30 kO internal pull-down. Data Format Select (DFS). Static control of data output format in non-SPI mode. 30 k ohm internal pull-down. DFS high = twos complement output. DFS low = offset (See Datasheet)", 46 CSB (in) "SPI Chip Select. Active low enable; 30 k ohm internal pull-up.", 47 OEB (in) "Digital Input. Enable Channel A and Channel B digital outputs if low, tristate outputs if high. 30 k ohm internal pull-down.", 48 PDWN (in) "Digital Input. 30 k ohm  internal pull-down. PDWN high = power-down device. PDWN low = run device, normal operation.", 49 AVDD (power) "1.8 V Analog Supply Pins.", 50 AVDD (power) "1.8 V Analog Supply Pins.", 53 AVDD (power) "1.8 V Analog Supply Pins.", 54 AVDD (power) "1.8 V Analog Supply Pins.", 55 VREF (io) "Voltage Reference Input/Output.", 56 SENSE (in) "Reference Mode Selection.", 57 VCM (out) "Analog output voltage at midsupply to set common mode of the analog inputs.", 58 RBIAS (in) "Sets Analog Current Bias. Connect to 10 k ohm  (1% tolerance) resistor to ground.", 59 AVDD (power) "1.8 V Analog Supply Pins.", 60 AVDD (power) "1.8 V Analog Supply Pins.", 63 AVDD (power) "1.8 V Analog Supply Pins.", 64 AVDD (power) "1.8 V Analog Supply Pins.", 65 EP (power) "Exposed paddle is the only ground connection for the chip. Must be connected to PCB AGND."

## AD9231BCPZ-80
designator U?
Dual 12-Bit Analog-to-Digital Converter with LVDS, Serial Interface, 1.8V, 80MSPS, -40 to +85 degC, CP-64-4, Pb-Free, Tray; Generic Part Number: AD9231-80; Manufacturer: Analog Devices; PartNumber: AD9231BCPZ-80; Resolution (Bits): 12; Channels: 2; Throughput Rate (SPS): 80M; DatasheetVersion: Rev.A; PackageVersion: 051007-C; PackageReference: CP-64-4; PackageDescription: 64-Lead Lead Frame Chip Scale Package [LFCSP_VQ] 9 x 9 mm Body, Very Thin Quad; Supplier 1: Digi-Key; Supplier Part Number 1: AD9231BCPZ-80-ND; Supplier 2: Newark; Supplier Part Number 2: 51R0747; Supplier 3: Mouser; Supplier Part Number 3: 584-AD9231BCPZ-80; Interface: LVDS, Ser; RoHS: Y; Packing: Tray; Mounting Technology: Surface Mount; Code_JEDEC: MO-220-VMMD-4; ComponentLink1Description: Manufacturer URL; ComponentLink1URL: http://www.analog.com/en/index.html; ComponentLink2Description: Datasheet; ComponentLink2URL: http://www.analog.com/static/imported-files/data_sheets/AD9231.pdf; ComponentLink3Description: Package Specification; ComponentLink3URL: http://www.analog.com/static/imported-files/packages/PKG_PDF/LFCSP(CP)/CP_64_4.pdf; ComponentLink4Description: Product URL; ComponentLink4URL: http://www.analog.com/en/analog-to-digital-converters/ad-converters/ad9231/products/product.html
footprint CP-64-4_N (QFN, 64-Leads, Body 9x9mm, Pitch 0.5mm, Thermal Pad 6.2x6.2mm, IPC Medium Density)
footprint CP-64-4_L (QFN, 64-Leads, Body 9x9mm, Pitch 0.5mm, Thermal Pad 6.2x6.2mm, IPC High Density)
footprint CP-64-4_M (QFN, 64-Leads, Body 9x9mm, Pitch 0.5mm, Thermal Pad 6.2x6.2mm, IPC Low Density)
part A pins: 8 D0B (hiz) "Channel B Digital Outputs.", 9 D1B (hiz) "Channel B Digital Outputs.", 11 D2B (hiz) "Channel B Digital Outputs.", 12 D3B (hiz) "Channel B Digital Outputs.", 13 D4B (hiz) "Channel B Digital Outputs.", 14 D5B (hiz) "Channel B Digital Outputs.", 15 D6B (hiz) "Channel B Digital Outputs.", 16 D7B (hiz) "Channel B Digital Outputs.", 17 D8B (hiz) "Channel B Digital Outputs.", 18 D9B (hiz) "Channel B Digital Outputs.", 20 D10B (hiz) "Channel B Digital Outputs.", 21 D11B (hiz) "Channel B Digital Outputs. D11B = MSB", 22 ORB (hiz) "Channel B Out-of-Range Digital Output.", 23 DCOB (hiz) "Channel B Data Clock Digital Output.", 24 DCOA (hiz) "Channel A Data Clock Digital Output.", 30 D0A (hiz) "Channel A Digital Outputs.", 31 D1A (hiz) "Channel A Digital Outputs.", 32 D2A (hiz) "Channel A Digital Outputs.", 33 D3A (hiz) "Channel A Digital Outputs.", 34 D4A (hiz) "Channel A Digital Outputs.", 35 D5A (hiz) "Channel A Digital Outputs.", 36 D6A (hiz) "Channel A Digital Outputs.", 38 D7A (hiz) "Channel A Digital Outputs.", 39 D8A (hiz) "Channel A Digital Outputs.", 40 D9A (hiz) "Channel A Digital Outputs.", 41 D10A (hiz) "Channel A Digital Outputs.", 42 D11A (hiz) "Channel A Digital Outputs. D11A = MSB.", 43 ORA (hiz) "Channel A Out-of-Range Digital Output.", 51 VIN+A (in) "Channel A Analog Inputs.", 52 VIN-A (in) "Channel A Analog Inputs.", 61 VIN-B (in) "Channel B Analog Inputs.", 62 VIN+B (in) "Channel B Analog Inputs."
part B pins: 1 CLK+ (in) "Differential Encode Clock. PECL, LVDS, or 1.8 V CMOS inputs.", 2 CLK- (in) "Differential Encode Clock. PECL, LVDS, or 1.8 V CMOS inputs.", 3 SYNC (in) "Digital Input. SYNC input to clock divider. 30 k ohm internal pull-down.", 4 NC "Do Not Connect.", 5 NC "Do Not Connect.", 6 NC "Do Not Connect.", 7 NC "Do Not Connect.", 10 DRVDD (power) "Digital Output Driver Supply (1.8 V to 3.3 V).", 19 DRVDD (power) "Digital Output Driver Supply (1.8 V to 3.3 V).", 25 NC "Do Not Connect.", 26 NC "Do Not Connect.", 27 NC "Do Not Connect.", 28 DRVDD (power) "Digital Output Driver Supply (1.8 V to 3.3 V).", 29 NC "Do Not Connect.", 37 DRVDD (power) "Digital Output Driver Supply (1.8 V to 3.3 V).", 44 SDIO/DCS (io) "SPI Data Input/Output (SDIO). Bidirectional SPI Data I/O in SPI mode. 30 k ohm  internal pull-down in SPI mode. Duty Cycle Stabilizer (DCS). Static enable input for duty cycle stabilizer in non-SPI mode. 30 k ohm internal pull-up (See Datasheet)", 45 SCLK/DFS (in) "SPI Clock (SCLK) Input in SPI mode. 30 k ohm internal pull-down. Data Format Select (DFS). Static control of data output format in non-SPI mode. 30 kohm  internal pull-down. DFS high = twos complement output. DFS low = offset (See Datasheet)", 46 CSB (in) "SPI Chip Select. Active low enable; 30 kohm internal pull-up.", 47 OEB (in) "Digital Input. Enable Channel A and Channel B digital outputs if low, tristate outputs if high. 30 k ohm internal pull-down.", 48 PDWN (in) "Digital Input. 30 k ohm internal pull-down. PDWN high = power-down device. PDWN low = run device, normal operation.", 49 AVDD (power) "1.8 V Analog Supply Pins.", 50 AVDD (power) "1.8 V Analog Supply Pins.", 53 AVDD (power) "1.8 V Analog Supply Pins.", 54 AVDD (power) "1.8 V Analog Supply Pins.", 55 VREF (io) "Voltage Reference Input/Output.", 56 SENSE (in) "Reference Mode Selection.", 57 VCM (out) "Analog output voltage at midsupply to set common mode of the analog inputs.", 58 RBIAS (in) "Sets Analog Current Bias. Connect to 10 k ohm (1% tolerance) resistor to ground.", 59 AVDD (power) "1.8 V Analog Supply Pins.", 60 AVDD (power) "1.8 V Analog Supply Pins.", 63 AVDD (power) "1.8 V Analog Supply Pins.", 64 AVDD (power) "1.8 V Analog Supply Pins.", 65 EP (power) "Exposed paddle is the only ground connection for the chip. Must be connected to PCB AGND."

## AD9231BCPZRL7-20
designator U?
Dual 12-Bit Analog-to-Digital Converter with LVDS, Serial Interface, 1.8 V, 20MSPS, -40 to +85 degC, CP-64-4, Pb-Free, Reel; Generic Part Number: AD9231-20; Manufacturer: Analog Devices; PartNumber: AD9231BCPZRL7-20; Resolution (Bits): 12; Channels: 2; Throughput Rate (SPS): 20M; DatasheetVersion: Rev.A; PackageVersion: 051007-C; PackageReference: CP-64-4; PackageDescription: 64-Lead Lead Frame Chip Scale Package [LFCSP_VQ] 9 x 9 mm Body, Very Thin Quad; Supplier 1: Digi-Key; Supplier Part Number 1: AD9231BCPZRL7-20-ND; Supplier 2: Mouser; Supplier Part Number 2: 584-AD9231BCPZR7-20; Interface: LVDS, Ser; RoHS: Y; Packing: Reel; Mounting Technology: Surface Mount; Code_JEDEC: MO-220-VMMD-4; ComponentLink1Description: Manufacturer URL; ComponentLink1URL: http://www.analog.com/en/index.html; ComponentLink2Description: Datasheet; ComponentLink2URL: http://www.analog.com/static/imported-files/data_sheets/AD9231.pdf; ComponentLink3Description: Package Specification; ComponentLink3URL: http://www.analog.com/static/imported-files/packages/PKG_PDF/LFCSP(CP)/CP_64_4.pdf; ComponentLink4Description: Product URL; ComponentLink4URL: http://www.analog.com/en/analog-to-digital-converters/ad-converters/ad9231/products/product.html
footprint CP-64-4_N (QFN, 64-Leads, Body 9x9mm, Pitch 0.5mm, Thermal Pad 6.2x6.2mm, IPC Medium Density)
footprint CP-64-4_L (QFN, 64-Leads, Body 9x9mm, Pitch 0.5mm, Thermal Pad 6.2x6.2mm, IPC High Density)
footprint CP-64-4_M (QFN, 64-Leads, Body 9x9mm, Pitch 0.5mm, Thermal Pad 6.2x6.2mm, IPC Low Density)
part A pins: 24 DCOA (hiz) "Channel A Data Clock Digital Output.", 30 D0A (hiz) "Channel A Digital Outputs.", 31 D1A (hiz) "Channel A Digital Outputs.", 32 D2A (hiz) "Channel A Digital Outputs.", 33 D3A (hiz) "Channel A Digital Outputs.", 34 D4A (hiz) "Channel A Digital Outputs.", 35 D5A (hiz) "Channel A Digital Outputs.", 36 D6A (hiz) "Channel A Digital Outputs.", 38 D7A (hiz) "Channel A Digital Outputs.", 39 D8A (hiz) "Channel A Digital Outputs.", 40 D9A (hiz) "Channel A Digital Outputs.", 41 D10A (hiz) "Channel A Digital Outputs.", 42 D11A (hiz) "Channel A Digital Outputs. D11A = MSB.", 43 ORA (hiz) "Channel A Out-of-Range Digital Output.", 51 VIN+A (in) "Channel A Analog Inputs.", 52 VIN-A (in) "Channel A Analog Inputs."
part B pins: 8 D0B (hiz) "Channel B Digital Outputs.", 9 D1B (hiz) "Channel B Digital Outputs.", 11 D2B (hiz) "Channel B Digital Outputs.", 12 D3B (hiz) "Channel B Digital Outputs.", 13 D4B (hiz) "Channel B Digital Outputs.", 14 D5B (hiz) "Channel B Digital Outputs.", 15 D6B (hiz) "Channel B Digital Outputs.", 16 D7B (hiz) "Channel B Digital Outputs.", 17 D8B (hiz) "Channel B Digital Outputs.", 18 D9B (hiz) "Channel B Digital Outputs.", 20 D10B (hiz) "Channel B Digital Outputs.", 21 D11B (hiz) "Channel B Digital Outputs. D11B = MSB.", 22 ORB (hiz) "Channel B Out-of-Range Digital Output.", 23 DCOB (hiz) "Channel B Data Clock Digital Output.", 61 VIN-B (in) "Channel B Analog Inputs.", 62 VIN+B (in) "Channel B Analog Inputs."
part C pins: 1 CLK+ (in) "Differential Encode Clock. PECL, LVDS, or 1.8 V CMOS inputs.", 2 CLK- (in) "Differential Encode Clock. PECL, LVDS, or 1.8 V CMOS inputs.", 3 SYNC (in) "Digital Input. SYNC input to clock divider. 30 kO internal pull-down.", 4 NC "Do Not Connect.", 5 NC "Do Not Connect.", 6 NC "Do Not Connect.", 7 NC "Do Not Connect.", 25 NC "Do Not Connect.", 26 NC "Do Not Connect.", 27 NC "Do Not Connect.", 29 NC "Do Not Connect.", 44 SDIO/DCS (io) "SPI Data Input/Output (SDIO). Bidirectional SPI Data I/O in SPI mode. 30 kO internal pull-down in SPI mode.Duty Cycle Stabilizer (DCS). Static enable input for duty cycle stabilizer in non-SPI mode. 30 kO internal pull-up in (See Datasheet)", 45 SCLK/DFS (in) "SPI Clock (SCLK) Input in SPI mode. 30 kO internal pull-down. Data Format Select (DFS). Static control of data output format in non-SPI mode. 30 kO internal pull-down. DFS high = twos complement output. DFS low = offset (See Datasheet)", 46 CSB (in) "SPI Chip Select. Active low enable; 30 kO internal pull-up.", 47 OEB (in) "Digital Input. Enable Channel A and Channel B digital outputs if low, tristate outputs if high. 30 kO internal pull-down.", 48 PDWN (in) "Digital Input. 30 kO internal pull-down. PDWN high = power-down device. PDWN low = run device, normal operation.", 55 VREF (io) "Voltage Reference Input/Output.", 56 SENSE (in) "Reference Mode Selection.", 57 VCM (out) "Analog output voltage at midsupply to set common mode of the analog inputs.", 58 RBIAS (in) "Sets Analog Current Bias. Connect to 10 kO (1% tolerance) resistor to ground."
part D pins: 10 DRVDD (power) "Digital Output Driver Supply (1.8 V to 3.3 V).", 19 DRVDD (power) "Digital Output Driver Supply (1.8 V to 3.3 V).", 28 DRVDD (power) "Digital Output Driver Supply (1.8 V to 3.3 V).", 37 DRVDD (power) "Digital Output Driver Supply (1.8 V to 3.3 V).", 49 AVDD (power) "1.8 V Analog Supply Pins.", 50 AVDD (power) "1.8 V Analog Supply Pins.", 53 AVDD (power) "1.8 V Analog Supply Pins.", 54 AVDD (power) "1.8 V Analog Supply Pins.", 59 AVDD (power) "1.8 V Analog Supply Pins.", 60 AVDD (power) "1.8 V Analog Supply Pins.", 63 AVDD (power) "1.8 V Analog Supply Pins.", 64 AVDD (power) "1.8 V Analog Supply Pins.", 65 EP (power) "Exposed paddle is the only ground connection for the chip. Must be connected to PCB AGND."

## AD9231BCPZRL7-40
designator U?
Dual 12-Bit Analog-to-Digital Converter with LVDS, Serial Interface, 1.8 V 40MSPS, -40 to +85 degC, CP-64-4, Pb-Free, Reel; Generic Part Number: AD9231-40; Manufacturer: Analog Devices; PartNumber: AD9231BCPZRL7-40; Resolution (Bits): 12; Channels: 2; Throughput Rate (SPS): 40M; DatasheetVersion: Rev.A; PackageVersion: 051007-C; PackageReference: CP-64-4; PackageDescription: 64-Lead Lead Frame Chip Scale Package [LFCSP_VQ] 9 x 9 mm Body, Very Thin Quad; Supplier 1: Digi-Key; Supplier Part Number 1: AD9231BCPZRL7-40-ND; Supplier 2: Mouser; Supplier Part Number 2: 584-AD9231BCPZR7-40; Interface: LVDS, Ser; RoHS: Y; Packing: Reel; Mounting Technology: Surface Mount; Code_JEDEC: MO-220-VMMD-4; ComponentLink1Description: Manufacturer URL; ComponentLink1URL: http://www.analog.com/en/index.html; ComponentLink2Description: Datasheet; ComponentLink2URL: http://www.analog.com/static/imported-files/data_sheets/AD9231.pdf; ComponentLink3Description: Package Specification; ComponentLink3URL: http://www.analog.com/static/imported-files/packages/PKG_PDF/LFCSP(CP)/CP_64_4.pdf; ComponentLink4Description: Product URL; ComponentLink4URL: http://www.analog.com/en/analog-to-digital-converters/ad-converters/ad9231/products/product.html
footprint CP-64-4_N (QFN, 64-Leads, Body 9x9mm, Pitch 0.5mm, Thermal Pad 6.2x6.2mm, IPC Medium Density)
footprint CP-64-4_L (QFN, 64-Leads, Body 9x9mm, Pitch 0.5mm, Thermal Pad 6.2x6.2mm, IPC High Density)
footprint CP-64-4_M (QFN, 64-Leads, Body 9x9mm, Pitch 0.5mm, Thermal Pad 6.2x6.2mm, IPC Low Density)
part A pins: 24 DCOA (hiz) "Channel A Data Clock Digital Output.", 30 D0A (hiz) "Channel A Digital Outputs.", 31 D1A (hiz) "Channel A Digital Outputs.", 32 D2A (hiz) "Channel A Digital Outputs.", 33 D3A (hiz) "Channel A Digital Outputs.", 34 D4A (hiz) "Channel A Digital Outputs.", 35 D5A (hiz) "Channel A Digital Outputs.", 36 D6A (hiz) "Channel A Digital Outputs.", 38 D7A (hiz) "Channel A Digital Outputs.", 39 D8A (hiz) "Channel A Digital Outputs.", 40 D9A (hiz) "Channel A Digital Outputs.", 41 D10A (hiz) "Channel A Digital Outputs.", 42 D11A (hiz) "Channel A Digital Outputs. D11A = MSB.", 43 ORA (hiz) "Channel A Out-of-Range Digital Output.", 51 VIN+A (in) "Channel A Analog Inputs.", 52 VIN-A (in) "Channel A Analog Inputs."
part B pins: 8 D0B (hiz) "Channel B Digital Outputs.", 9 D1B (hiz) "Channel B Digital Outputs.", 11 D2B (hiz) "Channel B Digital Outputs.", 12 D3B (hiz) "Channel B Digital Outputs.", 13 D4B (hiz) "Channel B Digital Outputs.", 14 D5B (hiz) "Channel B Digital Outputs.", 15 D6B (hiz) "Channel B Digital Outputs.", 16 D7B (hiz) "Channel B Digital Outputs.", 17 D8B (hiz) "Channel B Digital Outputs.", 18 D9B (hiz) "Channel B Digital Outputs.", 20 D10B (hiz) "Channel B Digital Outputs.", 21 D11B (hiz) "Channel B Digital Outputs. D11B = MSB", 22 ORB (hiz) "Channel B Out-of-Range Digital Output.", 23 DCOB (hiz) "Channel B Data Clock Digital Output.", 61 VIN-B (in) "Channel B Analog Inputs.", 62 VIN+B (in) "Channel B Analog Inputs."
part C pins: 1 CLK+ (in) "Differential Encode Clock. PECL, LVDS, or 1.8 V CMOS inputs.", 2 CLK- (in) "Differential Encode Clock. PECL, LVDS, or 1.8 V CMOS inputs.", 3 SYNC (in) "Digital Input. SYNC input to clock divider. 30 k ohm internal pull-down.", 4 NC "Do Not Connect.", 5 NC "Do Not Connect.", 6 NC "Do Not Connect.", 7 NC "Do Not Connect.", 25 NC "Do Not Connect.", 26 NC "Do Not Connect.", 27 NC "Do Not Connect.", 29 NC "Do Not Connect.", 44 SDIO/DCS (io) "SPI Data Input/Output (SDIO). Bidirectional SPI Data I/O in SPI mode. 30 kO internal pull-down in SPI mode. Duty Cycle Stabilizer (DCS). Static enable input for duty cycle stabilizer in non-SPI mode. 30 k ohm internal pull-up (See Datasheet)", 45 SCLK/DFS (in) "SPI Clock (SCLK) Input in SPI mode. 30 k ohm internal pull-down. Data Format Select (DFS). Static control of data output format in non-SPI mode. 30 k ohm internal pull-down. DFS high = twos complement output. DFS low = offset (See Datasheet)", 46 CSB (in) "SPI Chip Select. Active low enable; 30 k ohm internal pull-up.", 47 OEB (in) "Digital Input. Enable Channel A and Channel B digital outputs if low, tristate outputs if high. 30 k ohm internal pull-down.", 48 PDWN (in) "Digital Input. 30 k ohm  internal pull-down. PDWN high = power-down device. PDWN low = run device, normal operation.", 55 VREF (io) "Voltage Reference Input/Output.", 56 SENSE (in) "Reference Mode Selection.", 57 VCM (out) "Analog output voltage at midsupply to set common mode of the analog inputs.", 58 RBIAS (in) "Sets Analog Current Bias. Connect to 10 k ohm  (1% tolerance) resistor to ground."
part D pins: 10 DRVDD (power) "Digital Output Driver Supply (1.8 V to 3.3 V).", 19 DRVDD (power) "Digital Output Driver Supply (1.8 V to 3.3 V).", 28 DRVDD (power) "Digital Output Driver Supply (1.8 V to 3.3 V).", 37 DRVDD (power) "Digital Output Driver Supply (1.8 V to 3.3 V).", 49 AVDD (power) "1.8 V Analog Supply Pins.", 50 AVDD (power) "1.8 V Analog Supply Pins.", 53 AVDD (power) "1.8 V Analog Supply Pins.", 54 AVDD (power) "1.8 V Analog Supply Pins.", 59 AVDD (power) "1.8 V Analog Supply Pins.", 60 AVDD (power) "1.8 V Analog Supply Pins.", 63 AVDD (power) "1.8 V Analog Supply Pins.", 64 AVDD (power) "1.8 V Analog Supply Pins.", 65 EP (power) "Exposed paddle is the only ground connection for the chip. Must be connected to PCB AGND."